# Altium footprint library U_Conn2x10HalfB.PcbLib: 1 footprints
Each footprint in its own frame and in the unit in brackets; x right, y up, seen from the top. Pads: shape width x height; smd on the part's side, far side on the other; paste and mask are expansions set on the pad; w line width, h text height; cw(c..) or ccw(c..) is an arc to the next point about the centre after c.
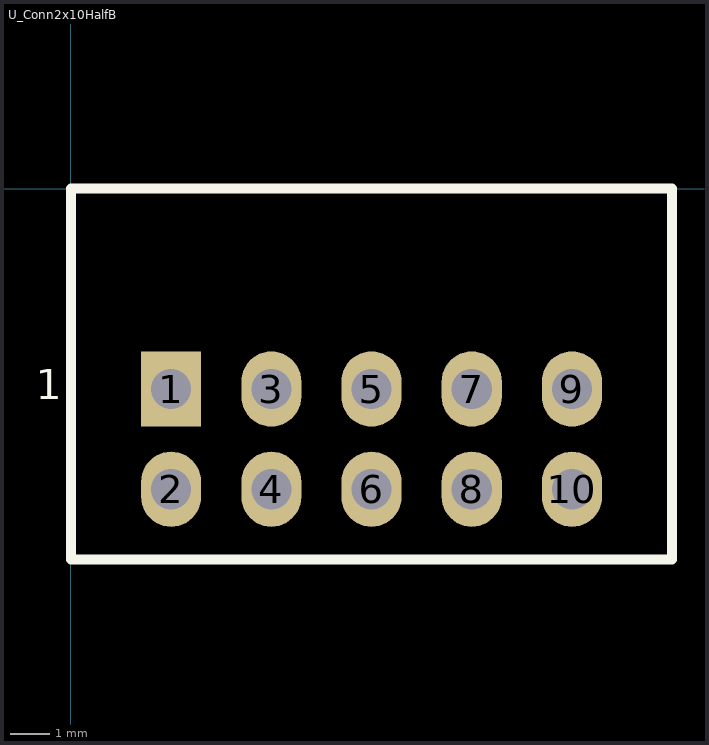
[diagram p0: the footprint, top view; thin cyan lines are the x and y axes]

## U_Conn2x10HalfB [mil]
pads (10):
  rect 60x75 hole 40: 1(100,-200)
  oval 60x75 hole 40: 2(100,-300) 3(200,-200) 4(200,-300) 5(300,-200) 6(300,-300) 7(400,-200) 8(400,-300) 9(500,-200) 10(500,-300)
Top Overlay:
  lines w10: 0,-370 600,-370 600,0 0,0 0,-370
  text "1" at -35,-210 h30